# Altium schematic symbol library Connektor.SchLib: 228 symbols
Pins are listed as number, name and electrical type; pins without a type are passive.

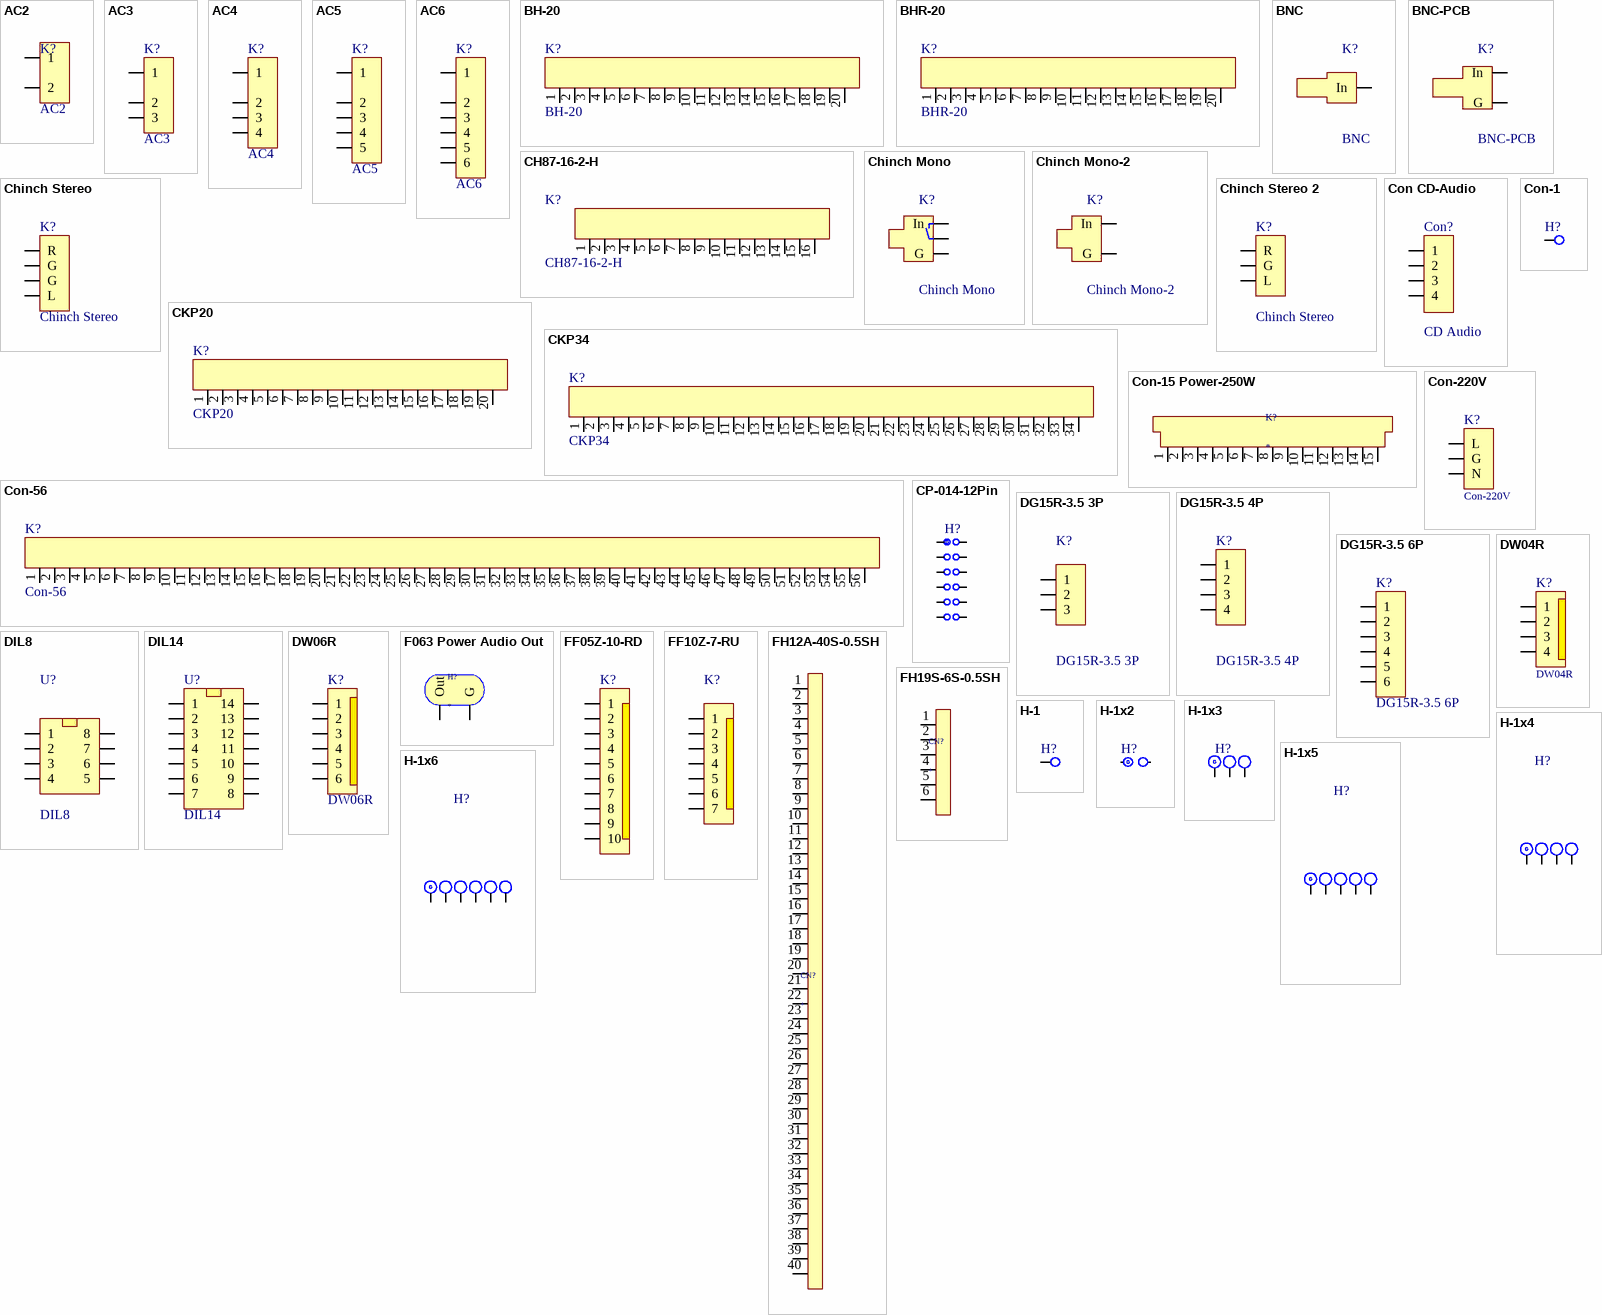
[diagram p0: symbols AC2 to H-1x6]

## AC2
designator K?
7A/250V 7.5mm; Price: 0.155
footprint AC2 (Footprint not found)
pins: 1, 2

## AC3
designator K?
7A/250V 7.5-5mm; Price: 0.2
footprint AC3 (Footprint not found)
footprint WS3R
pins: 1, 2, 3

## AC4
designator K?
7A/250V 7.5-5mm; Price: 0.26
footprint AC4 (Footprint not found)
footprint WF4R
pins: 1, 2, 3, 4

## AC5
designator K?
7A/250V 7.5-5mm; Price: 0.32
footprint AC5 (Footprint not found)
footprint WF5R
pins: 1, 2, 3, 4, 5

## AC6
designator K?
7A/250V 7.5-5mm; Price: 0.382
footprint AC6 (Footprint not found)
footprint WF6R
pins: 1, 2, 3, 4, 5, 6

## BH-20
designator K?
footprint BH-20 (Footprint not found)
pins: 1, 2, 3, 4, 5, 6, 7, 8, 9, 10, 11, 12, 13, 14, 15, 16, 17, 18, 19, 20

## BHR-20
designator K?
footprint BHR-20
pins: 1, 2, 3, 4, 5, 6, 7, 8, 9, 10, 11, 12, 13, 14, 15, 16, 17, 18, 19, 20

## BNC
designator K?
Price: 0.24
footprint BNC-1
pins: 1 In

## BNC-PCB
designator K?
Price: 0.24
footprint BNC-PCB
pins: 1 In, 2 G

## CH87-16-2-H
designator K?
2x8 Pin Header 2.54mm; Manifacture: CivLux; Комет: BH16R
footprint CH87-16-2-H (Footprint not found)
pins: 1, 2, 3, 4, 5, 6, 7, 8, 9, 10, 11, 12, 13, 14, 15, 16
1 alternate drawing of the same symbol

## Chinch Mono
designator K?
Price: 0.24
footprint Chinch Mono
pins: 1 G, 2 In, 3

## Chinch Mono-2
designator K?
Price: 0.24
footprint Chinch Mono - 2
pins: 1 In, 2 G

## Chinch Stereo
designator K?
footprint Chinch Stereo
pins: 1 G, 2 R, 3 G, 4 L

## Chinch Stereo 2
designator K?, comment Chinch Stereo
footprint Chinch Stereo - 2
pins: 1 G, 2 R, 3 L

## CKP20
designator K?
footprint CKP-20V
pins: 1, 2, 3, 4, 5, 6, 7, 8, 9, 10, 11, 12, 13, 14, 15, 16, 17, 18, 19, 20

## CKP34
designator K?
footprint CKP-34V
pins: 1, 2, 3, 4, 5, 6, 7, 8, 9, 10, 11, 12, 13, 14, 15, 16, 17, 18, 19, 20, 21, 22, 23, 24, 25, 26, 27, 28, 29, 30, 31, 32, 33, 34

## Con CD-Audio
designator Con?, comment CD Audio
CD Audio 4x2.54 90; Price: 0.07
footprint CD Audio 4x2.54 90
pins: 1, 2, 3, 4

## Con-1
designator H?
Price: 0.01
footprint Con 2x5 (Footprint not found)
footprint Con 1.5x2
pins: 1

## Con-15 Power-250W
designator K?
footprint Con-15 Power-250W
pins: 1, 2, 3, 4, 5, 6, 7, 8, 9, 10, 11, 12, 13, 14, 15

## Con-56
designator K?
footprint Con-56 Auto
pins: 1, 2, 3, 4, 5, 6, 7, 8, 9, 10, 11, 12, 13, 14, 15, 16, 17, 18, 19, 20, 21, 22, 23, 24, 25, 26, 27, 28, 29, 30, 31, 32, 33, 34, 35, 36, 37, 38, 39, 40, 41, 42, 43, 44, 45, 46, 47, 48, 49, 50, 51, 52, 53, 54, 55, 56

## Con-220V
designator K?
footprint Con-220V 7.3x7
footprint Con-220V - 9.05x9.7
pins: 1 L, 2 G, 3 N

## CP-014-12Pin
designator H?
Price: 0.12
footprint CP-014-12Pin
footprint CP-014-12Pin - R
pins: 1, 2, 3, 4, 5, 6, 7, 8, 9, 10, 11, 12

## DG15R-3.5 3P
designator K?
Price: 1.716
footprint DG15R-3.5 3P
pins: 1, 2, 3

## DG15R-3.5 4P
designator K?
Price: 1.716
footprint DG15R-3.5 4P
pins: 1, 2, 3, 4

## DG15R-3.5 6P
designator K?
Price: 1.716
footprint DG15R-3.5 6P
pins: 1, 2, 3, 4, 5, 6

## DIL8
designator U?
Price: 0.07
footprint DIL8-300
pins: 1, 2, 3, 4, 5, 6, 7, 8

## DIL14
designator U?
Price: 0.07
footprint DIL14-300
pins: 1, 2, 3, 4, 5, 6, 7, 8, 9, 10, 11, 12, 13, 14

## DW04R
designator K?
2mm 2A/250V; Price: 0.12
footprint DW04R
pins: 1, 2, 3, 4

## DW06R
designator K?
2mm 2A/250V; Price: 0.15
footprint DW06R
pins: 1, 2, 3, 4, 5, 6

## F063 Power Audio Out
designator H?
Price: 2.3
footprint F063 Power Audio Out
pins: 1 Out, 2 G

## FF05Z-10-RD
designator K?
CF20 0.5mm; Price: 0.33
footprint FF05Z-10-RD
pins: 0 hidden to Gnd, 0 hidden to gnd, 0 hidden to gnd, 1, 2, 3, 4, 5, 6, 7, 8, 9, 10
1 alternate drawing of the same symbol

## FF10Z-7-RU
designator K?
CF07 1mm; Price: 0.33
footprint FF10Z-7-RU
pins: 0 hidden to Gnd, 1, 2, 3, 4, 5, 6, 7

## FH12A-40S-0.5SH
designator CN?
footprint FH12A-40S-0.5SH (Footprint not found)
pins: 1, 2, 3, 4, 5, 6, 7, 8, 9, 10, 11, 12, 13, 14, 15, 16, 17, 18, 19, 20, 21, 22, 23, 24, 25, 26, 27, 28, 29, 30, 31, 32, 33, 34, 35, 36, 37, 38, 39, 40

## FH19S-6S-0.5SH
designator CN?
footprint FH19S-6S-0.5SH (Footprint not found)
pins: 1, 2, 3, 4, 5, 6

## H-1
designator H?
Price: 0.01
footprint J1 (Footprint not found)
pins: 1

## H-1x2
designator H?
Price: 0.02
footprint J1x2
pins: 1, 2

## H-1x3
designator H?
Price: 0.03
footprint J1x3
pins: 1, 2, 3

## H-1x4
designator H?
Price: 0.04
footprint J1x4
pins: 1, 2, 3, 4

## H-1x5
designator H?
Price: 0.05
footprint J1x5
pins: 1, 2, 3, 4, 5

## H-1x6
designator H?
Price: 0.06
footprint J1x6
pins: 1, 2, 3, 4, 5, 6

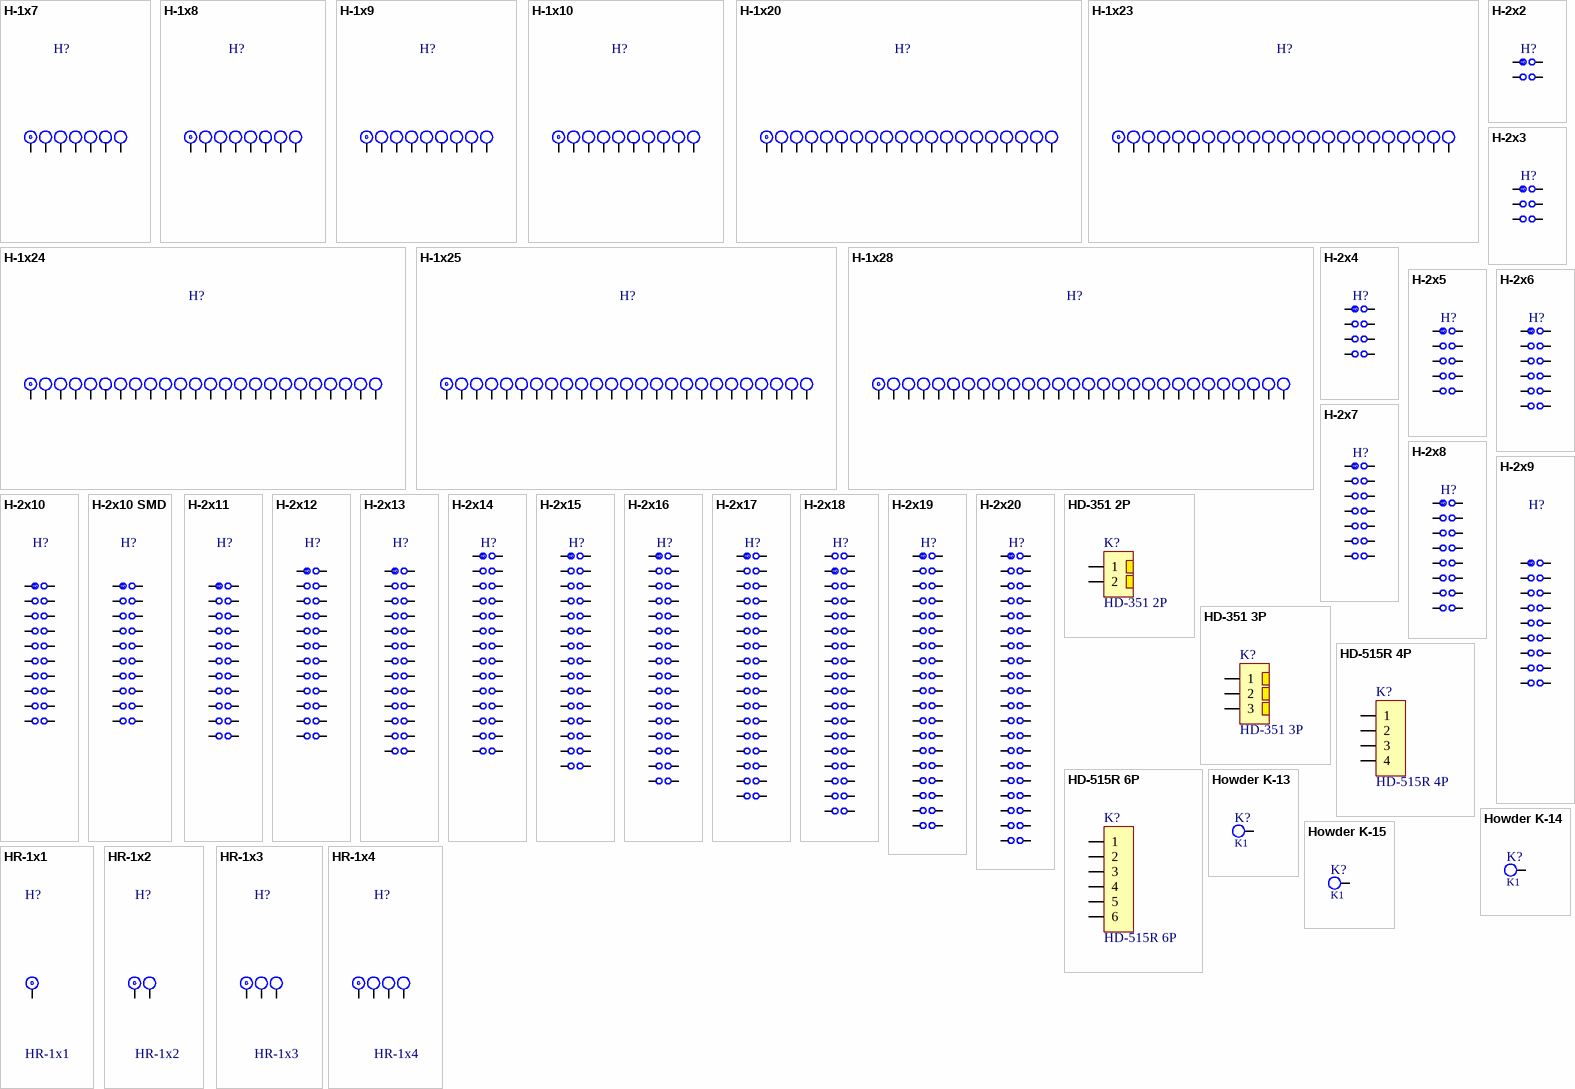
[diagram p1: symbols H-1x7 to HR-1x4]

## H-1x7
designator H?
Price: 0.07
footprint J1x7
pins: 1, 2, 3, 4, 5, 6, 7

## H-1x8
designator H?
Price: 0.08
footprint J1x8
pins: 1, 2, 3, 4, 5, 6, 7, 8

## H-1x9
designator H?
Price: 0.09
footprint J1x9
pins: 1, 2, 3, 4, 5, 6, 7, 8, 9

## H-1x10
designator H?
Price: 0.1
footprint J1x10
pins: 1, 2, 3, 4, 5, 6, 7, 8, 9, 10

## H-1x20
designator H?
Price: 0.2
footprint J1x20
pins: 1, 2, 3, 4, 5, 6, 7, 8, 9, 10, 11, 12, 13, 14, 15, 16, 17, 18, 19, 20

## H-1x23
designator H?
Price: 0.23
footprint J1x23
pins: 1, 2, 3, 4, 5, 6, 7, 8, 9, 10, 11, 12, 13, 14, 15, 16, 17, 18, 19, 20, 21, 22, 23

## H-1x24
designator H?
Price: 0.28
footprint J1x24
pins: 1, 2, 3, 4, 5, 6, 7, 8, 9, 10, 11, 12, 13, 14, 15, 16, 17, 18, 19, 20, 21, 22, 23, 24

## H-1x25
designator H?
Price: 0.28
footprint J1x25
pins: 1, 2, 3, 4, 5, 6, 7, 8, 9, 10, 11, 12, 13, 14, 15, 16, 17, 18, 19, 20, 21, 22, 23, 24, 25

## H-1x28
designator H?
Price: 0.28
footprint J1x28
pins: 1, 2, 3, 4, 5, 6, 7, 8, 9, 10, 11, 12, 13, 14, 15, 16, 17, 18, 19, 20, 21, 22, 23, 24, 25, 26, 27, 28

## H-2x2
designator H?
Price: 0.04
footprint J2x2 (Footprint not found)
pins: 1, 2, 3, 4

## H-2x3
designator H?
Price: 0.06
footprint J2x3
pins: 1, 2, 3, 4, 5, 6
1 alternate drawing of the same symbol

## H-2x4
designator H?
Price: 0.08
footprint J2x4
pins: 1, 2, 3, 4, 5, 6, 7, 8

## H-2x5
designator H?
Price: 0.010
footprint J2x5
pins: 1, 2, 3, 4, 5, 6, 7, 8, 9, 10

## H-2x6
designator H?
Price: 0.12
footprint J2x6
pins: 1, 2, 3, 4, 5, 6, 7, 8, 9, 10, 11, 12
1 alternate drawing of the same symbol

## H-2x7
designator H?
Price: 0.14
footprint J2x7
pins: 1, 2, 3, 4, 5, 6, 7, 8, 9, 10, 11, 12, 13, 14

## H-2x8
designator H?
Price: 0.16
footprint J2x8
pins: 1, 2, 3, 4, 5, 6, 7, 8, 9, 10, 11, 12, 13, 14, 15, 16

## H-2x9
designator H?
Price: 0.18
footprint J2x9
pins: 1, 2, 3, 4, 5, 6, 7, 8, 9, 10, 11, 12, 13, 14, 15, 16, 17, 18

## H-2x10
designator H?
Price: 0.20
footprint J2x10
pins: 1, 2, 3, 4, 5, 6, 7, 8, 9, 10, 11, 12, 13, 14, 15, 16, 17, 18, 19, 20

## H-2x10 SMD
designator H?
Price: 0.20
footprint J2x10
pins: 1, 2, 3, 4, 5, 6, 7, 8, 9, 10, 11, 12, 13, 14, 15, 16, 17, 18, 19, 20
1 alternate drawing of the same symbol

## H-2x11
designator H?
Price: 0.22
footprint J2x11
pins: 1, 2, 3, 4, 5, 6, 7, 8, 9, 10, 11, 12, 13, 14, 15, 16, 17, 18, 19, 20, 21, 22

## H-2x12
designator H?
Price: 0.24
footprint J2x12
pins: 1, 2, 3, 4, 5, 6, 7, 8, 9, 10, 11, 12, 13, 14, 15, 16, 17, 18, 19, 20, 21, 22, 23, 24

## H-2x13
designator H?
Price: 0.26
footprint J2x13
pins: 1, 2, 3, 4, 5, 6, 7, 8, 9, 10, 11, 12, 13, 14, 15, 16, 17, 18, 19, 20, 21, 22, 23, 24, 25, 26

## H-2x14
designator H?
Price: 0.28
footprint J2x14
pins: 1, 2, 3, 4, 5, 6, 7, 8, 9, 10, 11, 12, 13, 14, 15, 16, 17, 18, 19, 20, 21, 22, 23, 24, 25, 26, 27, 28

## H-2x15
designator H?
Price: 0.30
footprint J2x15
pins: 1, 2, 3, 4, 5, 6, 7, 8, 9, 10, 11, 12, 13, 14, 15, 16, 17, 18, 19, 20, 21, 22, 23, 24, 25, 26, 27, 28, 29, 30

## H-2x16
designator H?
Price: 0.32
footprint J2x16
pins: 1, 2, 3, 4, 5, 6, 7, 8, 9, 10, 11, 12, 13, 14, 15, 16, 17, 18, 19, 20, 21, 22, 23, 24, 25, 26, 27, 28, 29, 30, 31, 32

## H-2x17
designator H?
Price: 0.34
footprint J2x17
pins: 1, 2, 3, 4, 5, 6, 7, 8, 9, 10, 11, 12, 13, 14, 15, 16, 17, 18, 19, 20, 21, 22, 23, 24, 25, 26, 27, 28, 29, 30, 31, 32, 33, 34

## H-2x18
designator H?
Price: 0.36
footprint J2x18
pins: 1, 2, 3, 4, 5, 6, 7, 8, 9, 10, 11, 12, 13, 14, 15, 16, 17, 18, 19, 20, 21, 22, 23, 24, 25, 26, 27, 28, 29, 30, 31, 32, 33, 34, 35, 36

## H-2x19
designator H?
Price: 0.38
footprint J2x19
pins: 1, 2, 3, 4, 5, 6, 7, 8, 9, 10, 11, 12, 13, 14, 15, 16, 17, 18, 19, 20, 21, 22, 23, 24, 25, 26, 27, 28, 29, 30, 31, 32, 33, 34, 35, 36, 37, 38

## H-2x20
designator H?
Price: 0.40
footprint J2x20
pins: 1, 2, 3, 4, 5, 6, 7, 8, 9, 10, 11, 12, 13, 14, 15, 16, 17, 18, 19, 20, 21, 22, 23, 24, 25, 26, 27, 28, 29, 30, 31, 32, 33, 34, 35, 36, 37, 38, 39, 40

## HD-351 2P
designator K?
10A/300V AC 3.5mm; Price: 0.27
footprint HD-351 2P (Footprint not found)
pins: 1, 2

## HD-351 3P
designator K?
10A/300V AC 3.5mm; Price: 0.404
footprint HD-351 3P
footprint WS3R
pins: 1, 2, 3

## HD-515R 4P
designator K?
10A/300V AC 5mm 90; Price: 1.14
footprint HD-515R 4P
pins: 1, 2, 3, 4

## HD-515R 6P
designator K?
10A/300V AC 5mm 90; Price: 1.716
footprint HD-515R 6P
pins: 1, 2, 3, 4, 5, 6

## Howder K-13
designator K?, comment K1
15A/300V AC; Price: 0.23
footprint K13
pins: 1
1 alternate drawing of the same symbol

## Howder K-14
designator K?, comment K1
15A/300V AC; Price: 0.23
footprint K14
pins: 1
1 alternate drawing of the same symbol

## Howder K-15
designator K?, comment K1
15A/300V AC 90; Price: 0.23
footprint K15
pins: 1
1 alternate drawing of the same symbol

## HR-1x1
designator H?
Price: 0.01
footprint HR-1x1
pins: 1

## HR-1x2
designator H?
Price: 0.02
footprint HR-1x2 (Footprint not found)
pins: 1, 2

## HR-1x3
designator H?
Price: 0.03
footprint HR-1x3
pins: 1, 2, 3

## HR-1x4
designator H?
Price: 0.04
footprint HR-1x4
pins: 1, 2, 3, 4

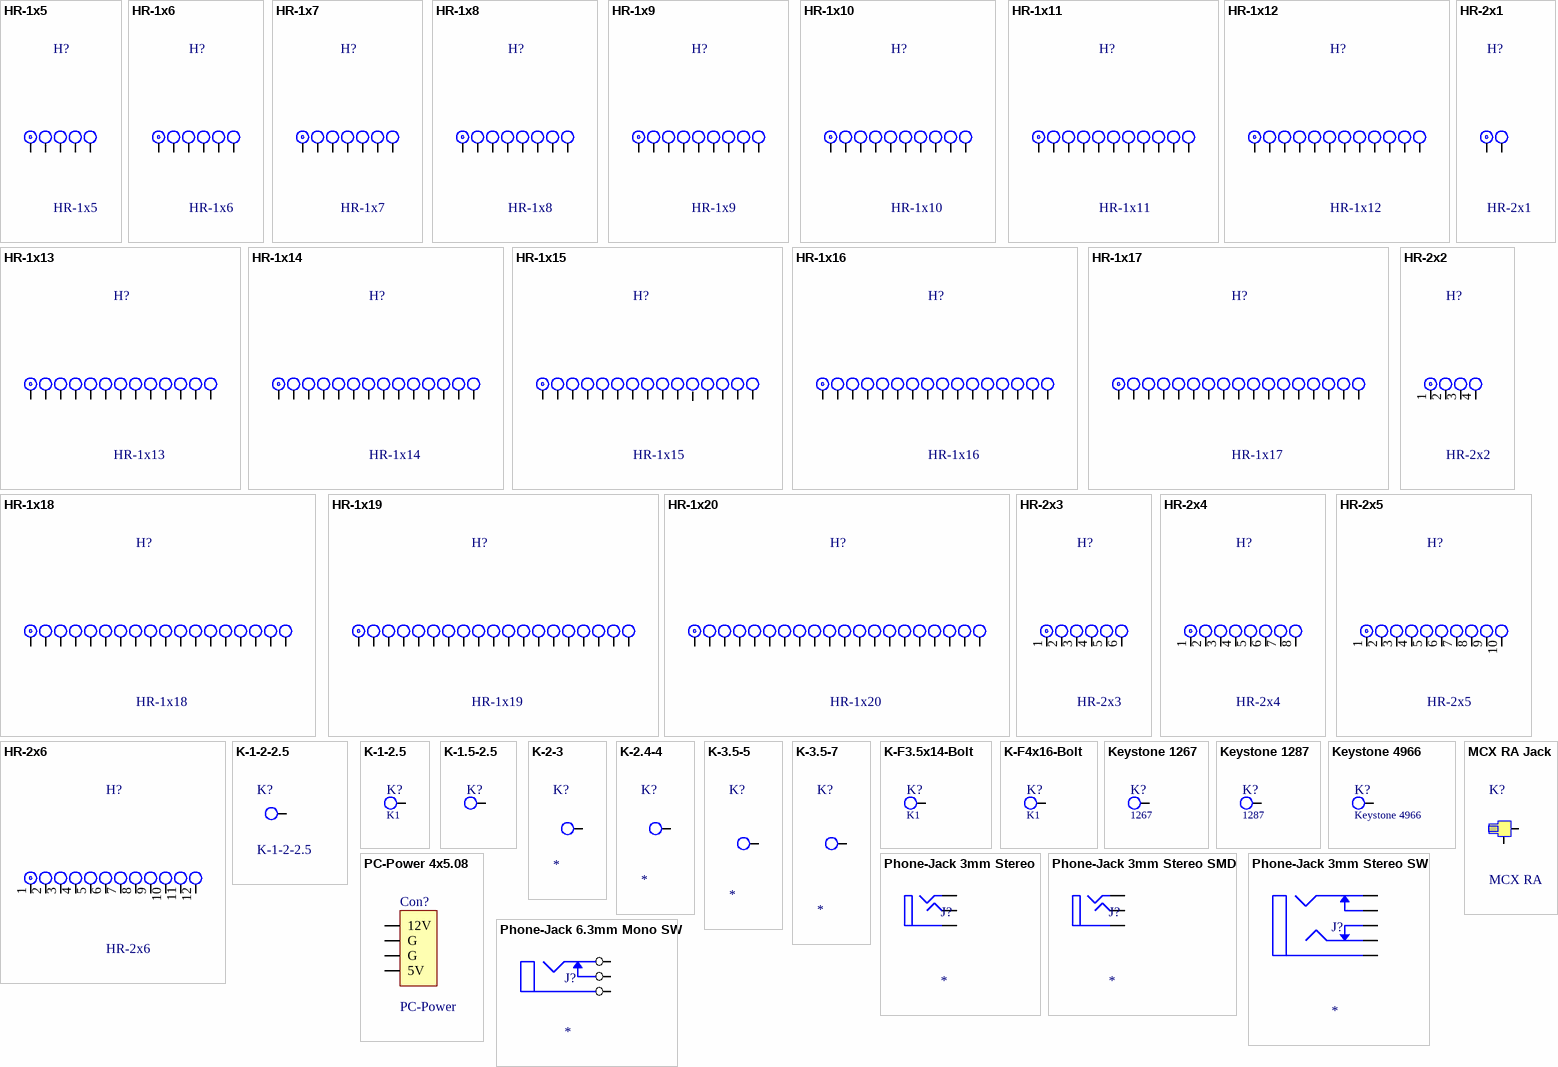
[diagram p2: symbols HR-1x5 to Phone-Jack 6.3mm Mono SW]

## HR-1x5
designator H?
Price: 0.05
footprint HR-1x5
pins: 1, 2, 3, 4, 5

## HR-1x6
designator H?
Price: 0.06
footprint HR-1x6
pins: 1, 2, 3, 4, 5, 6

## HR-1x7
designator H?
Price: 0.07
footprint HR-1x7
pins: 1, 2, 3, 4, 5, 6, 7

## HR-1x8
designator H?
Price: 0.08
footprint HR-1x8
pins: 1, 2, 3, 4, 5, 6, 7, 8

## HR-1x9
designator H?
Price: 0.09
footprint HR-1x9
pins: 1, 2, 3, 4, 5, 6, 7, 8, 9

## HR-1x10
designator H?
Price: 0.1
footprint HR-1x10
pins: 1, 2, 3, 4, 5, 6, 7, 8, 9, 10

## HR-1x11
designator H?
Price: 0.11
footprint HR-1x11
pins: 1, 2, 3, 4, 5, 6, 7, 8, 9, 10, 11

## HR-1x12
designator H?
Price: 0.12
footprint HR-1x12
pins: 1, 2, 3, 4, 5, 6, 7, 8, 9, 10, 11, 12

## HR-1x13
designator H?
Price: 0.13
footprint HR-1x13
pins: 1, 2, 3, 4, 5, 6, 7, 8, 9, 10, 11, 12, 13

## HR-1x14
designator H?
Price: 0.14
footprint HR-1x14
pins: 1, 2, 3, 4, 5, 6, 7, 8, 9, 10, 11, 12, 13, 14

## HR-1x15
designator H?
Price: 0.15
footprint HR-1x15
pins: 1, 2, 3, 4, 5, 6, 7, 8, 9, 10, 11, 12, 13, 14, 15

## HR-1x16
designator H?
Price: 0.16
footprint HR-1x16
pins: 1, 2, 3, 4, 5, 6, 7, 8, 9, 10, 11, 12, 13, 14, 15, 16

## HR-1x17
designator H?
Price: 0.17
footprint HR-1x17
pins: 1, 2, 3, 4, 5, 6, 7, 8, 9, 10, 11, 12, 13, 14, 15, 16, 17

## HR-1x18
designator H?
Price: 0.18
footprint HR-1x18
pins: 1, 2, 3, 4, 5, 6, 7, 8, 9, 10, 11, 12, 13, 14, 15, 16, 17, 18

## HR-1x19
designator H?
Price: 0.19
footprint HR-1x19
pins: 1, 2, 3, 4, 5, 6, 7, 8, 9, 10, 11, 12, 13, 14, 15, 16, 17, 18, 19

## HR-1x20
designator H?
Price: 0.20
footprint HR-1x20
pins: 1, 2, 3, 4, 5, 6, 7, 8, 9, 10, 11, 12, 13, 14, 15, 16, 17, 18, 19, 20

## HR-2x1
designator H?
Price: 0.03
footprint HR-2x1
pins: 1, 2
1 alternate drawing of the same symbol

## HR-2x2
designator H?
Price: 0.06
footprint HR-2x2
pins: 1, 2, 3, 4
1 alternate drawing of the same symbol

## HR-2x3
designator H?
Price: 0.09
footprint HR-2x3
pins: 1, 2, 3, 4, 5, 6
1 alternate drawing of the same symbol

## HR-2x4
designator H?
Price: 0.12
footprint HR-2x4
pins: 1, 2, 3, 4, 5, 6, 7, 8
1 alternate drawing of the same symbol

## HR-2x5
designator H?
Price: 0.15
footprint HR-2x5
pins: 1, 2, 3, 4, 5, 6, 7, 8, 9, 10
1 alternate drawing of the same symbol

## HR-2x6
designator H?
Price: 0.15
footprint HR-2x6
pins: 1, 2, 3, 4, 5, 6, 7, 8, 9, 10, 11, 12
1 alternate drawing of the same symbol

## K-1-2-2.5
designator K?  (no BOM)
footprint F1-2-2.5
pins: 1

## K-1-2.5
designator K?, comment K1  (no BOM)
Price: 0.01
footprint F1-2.5
pins: 1
1 alternate drawing of the same symbol

## K-1.5-2.5
designator K?  (no BOM)
Price: 0.01
footprint F1.5-2.5
pins: 1
1 alternate drawing of the same symbol

## K-2-3
designator K?  (no BOM)
footprint F2-3
pins: 1

## K-2.4-4
designator K?  (no BOM)
footprint F2.4-4
pins: 1

## K-3.5-5
designator K?  (no BOM)
footprint F3.5-5
pins: 1

## K-3.5-7
designator K?  (no BOM)
footprint F3.5-7
pins: 1

## K-F3.5x14-Bolt
designator K?, comment K1
Bolt F3x14; Price: 0.01
footprint F3.5x14-Bolt
pins: 1
1 alternate drawing of the same symbol

## K-F4x16-Bolt
designator K?, comment K1
Bolt F4x16; Price: 0.01
footprint F4.2
pins: 1
1 alternate drawing of the same symbol

## Keystone 1267
designator K?, comment 1267
Price: 0.01
footprint Keystone 1267 (Footprint not found)
pins: 1
1 alternate drawing of the same symbol

## Keystone 1287
designator K?, comment 1287
Price: 0.01
footprint Keystone 1287
pins: 1
1 alternate drawing of the same symbol

## Keystone 4966
designator K?
Price: 0.01
footprint Keystone 4966
pins: 1
1 alternate drawing of the same symbol

## MCX RA Jack
designator K?, comment MCX RA
MCX RA Jack; Price: 5
footprint MCX RA (Footprint not found)
footprint MCX RA SMD
footprint MCX RA Vert.
pins: 1 In, 2 G

## PC-Power 4x5.08
designator Con?, comment PC-Power
PC-Power 4x5.08; Price: 0.07
footprint PC-Power 4x5.08
pins: 1 5V, 2 G, 3 G, 4 12V

## Phone-Jack 3mm Stereo
designator J?
footprint Jak-Ph St 12x12-1
footprint Jak-Ph St 6x12
footprint Jak-Ph St 12x12-2
pins: 1 G, 2 L, 3 R
2 alternate drawings of the same symbol

## Phone-Jack 3mm Stereo SMD
designator J?
footprint Jak-Ph St 1503 03
pins: 0 G hidden to Gnd, 0 G hidden to Gnd, 1 G, 2 L, 3 R
2 alternate drawings of the same symbol

## Phone-Jack 3mm Stereo SW
designator J?
footprint Jak-Ph St 12x12-Kl
pins: 1 G, 2 L, 3 R, 4 La, 5 Ra
2 alternate drawings of the same symbol

## Phone-Jack 6.3mm Mono SW
designator J?
Phone-Jack
footprint Phone-Jack 6.3mm Mono Suitsh (Footprint not found)
pins: 1, 2, 3
2 alternate drawings of the same symbol

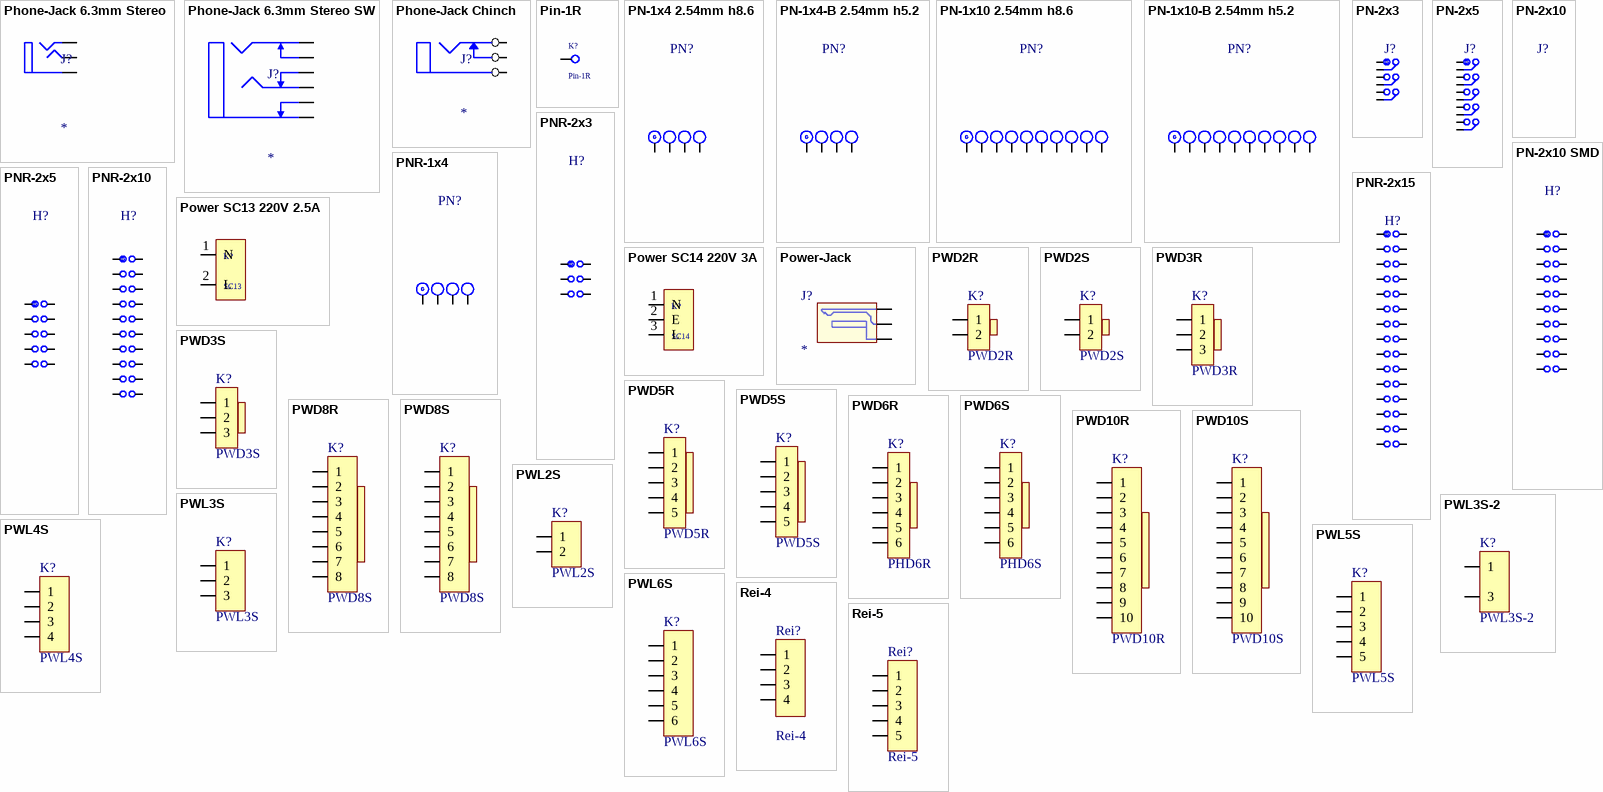
[diagram p3: symbols Phone-Jack 6.3mm Stereo to Rei-5]

## Phone-Jack 6.3mm Stereo
designator J?
footprint Phone-Jack 6.3mm
pins: 1 L, 2 R, 3 G
2 alternate drawings of the same symbol

## Phone-Jack 6.3mm Stereo SW
designator J?
footprint Phone-Jack Stereo SW 6.3mm (Footprint not found)
pins: 1 R, 2 L, 3 G, 4 Ga, 5 La, 6 Ra
2 alternate drawings of the same symbol

## Phone-Jack Chinch
designator J?
Phone-Jack
footprint Chinch Mono
pins: 1, 2, 3
2 alternate drawings of the same symbol

## Pin-1R
designator K?
footprint Pin-1R (Footprint not found)
pins: 1

## PN-1x4 2.54mm h8.6
designator PN?
Price: 0.25
footprint PN-1x4 2.54mm h8.6 (Footprint not found)
pins: 1, 2, 3, 4

## PN-1x4-B 2.54mm h5.2
designator PN?
footprint PN-1x4-B 2.54mm h5.2
pins: 1, 2, 3, 4

## PN-1x10 2.54mm h8.6
designator PN?
Price: 0.25
footprint PN-1x10 2.54mm h8.6
pins: 1, 2, 3, 4, 5, 6, 7, 8, 9, 10

## PN-1x10-B 2.54mm h5.2
designator PN?
footprint PN-1x10-B 2.54mm h5.2 (Footprint not found)
pins: 1, 2, 3, 4, 5, 6, 7, 8, 9, 10

## PN-2x3
designator J?
Price: 0.25
footprint PN-2x3
pins: 1, 2, 3, 4, 5, 6
1 alternate drawing of the same symbol

## PN-2x5
designator J?
Price: 0.25
footprint PN-2x5
pins: 1, 2, 3, 4, 5, 6, 7, 8, 9, 10
1 alternate drawing of the same symbol

## PN-2x10
designator J?
Price: 0.25
footprint PN-2x10
1 alternate drawing of the same symbol

## PN-2x10 SMD
designator H?
Price: 0.20
footprint PN-2x10 SMD (Footprint not found)
pins: 1, 2, 3, 4, 5, 6, 7, 8, 9, 10, 11, 12, 13, 14, 15, 16, 17, 18, 19, 20
1 alternate drawing of the same symbol

## PNR-1x4
designator PN?
footprint PNR-1x4
pins: 1, 2, 3, 4

## PNR-2x3
designator H?
footprint PNR-2x3
pins: 1, 2, 3, 4, 5, 6

## PNR-2x5
designator H?
Price: 0.4
footprint PNR-2x5
pins: 1, 2, 3, 4, 5, 6, 7, 8, 9, 10

## PNR-2x10
designator H?
Price: 0.7
footprint PNR-2x10
pins: 1, 2, 3, 4, 5, 6, 7, 8, 9, 10, 11, 12, 13, 14, 15, 16, 17, 18, 19, 20
1 alternate drawing of the same symbol

## PNR-2x15
designator H?
footprint PNR-2x15
pins: 1, 2, 3, 4, 5, 6, 7, 8, 9, 10, 11, 12, 13, 14, 15, 16, 17, 18, 19, 20, 21, 22, 23, 24, 25, 26, 27, 28, 29, 30

## Power SC13 220V 2.5A
designator K?, comment SC13
footprint Power SC13 220V 2.5A
pins: 1 N, 2 L

## Power SC14 220V 3A
designator K?, comment SC14
footprint Power SC14 220V 3A (Footprint not found)
pins: 1 N, 2 E, 3 L

## Power-Jack
designator J?
Power-Jack
footprint Power-Jack
pins: 1, 2, 3
2 alternate drawings of the same symbol

## PWD2R
designator K?
3.96mm 7A/250V; Price: 0.15
footprint PWD2R (Footprint not found)
pins: 1, 2

## PWD2S
designator K?
3.96mm 7A/250V; Price: 0.15
footprint PWD2S
pins: 1, 2

## PWD3R
designator K?
3.96mm 7A/250V; Price: 0.23
footprint PWD3R
pins: 1, 2, 3

## PWD3S
designator K?
3.96mm 7A/250V; Price: 0.23
footprint PWD3S
pins: 1, 2, 3

## PWD5R
designator K?
3.96mm 7A/250V; Price: 0.356
footprint PWD5R
pins: 1, 2, 3, 4, 5

## PWD5S
designator K?
3.96mm 7A/250V; Price: 0.356
footprint PWD5S
pins: 1, 2, 3, 4, 5

## PWD6R
designator K?, comment PHD6R
3.96mm 7A/250V; Price: 0.373
footprint PWD6R
pins: 1, 2, 3, 4, 5, 6

## PWD6S
designator K?, comment PHD6S
3.96mm 7A/250V; Price: 0.373
footprint PWD6S
pins: 1, 2, 3, 4, 5, 6

## PWD8R
designator K?, comment PWD8S
3.96mm 7A/250V; Price: 0.46
footprint PWD8R
pins: 1, 2, 3, 4, 5, 6, 7, 8

## PWD8S
designator K?
3.96mm 7A/250V; Price: 0.46
footprint PWD8S
pins: 1, 2, 3, 4, 5, 6, 7, 8

## PWD10R
designator K?
3.96mm 7A/250V; Price: 0.62
footprint PWD10R (Footprint not found)
pins: 1, 2, 3, 4, 5, 6, 7, 8, 9, 10

## PWD10S
designator K?
3.96mm 7A/250V; Price: 0.62
footprint PWD10S
pins: 1, 2, 3, 4, 5, 6, 7, 8, 9, 10

## PWL2S
designator K?
3.96mm 7A/250V
footprint PWL2S
pins: 1, 2

## PWL3S
designator K?
3.96mm 7A/250V; Price: 0.12
footprint PWL3S
pins: 1, 2, 3

## PWL3S-2
designator K?
3.96mm 7A/250V; Price: 0.12
footprint PWL3S-2
pins: 1, 3

## PWL4S
designator K?
3.96mm 7A/250V; Price: 0.17
footprint PWL4S (Model Description)
pins: 1, 2, 3, 4

## PWL5S
designator K?
3.96mm 7A/250V
footprint PWL5S (Model Description)
pins: 1, 2, 3, 4, 5

## PWL6S
designator K?
3.96mm 7A/250V; Price: 0.243
footprint PWL6S (Model Description)
pins: 1, 2, 3, 4, 5, 6

## Rei-4
designator Rei?
Price: 0.07
footprint Rei-4 (Footprint not found)
pins: 1, 2, 3, 4

## Rei-5
designator Rei?
Price: 0.07
footprint Rei-5
pins: 1, 2, 3, 4, 5

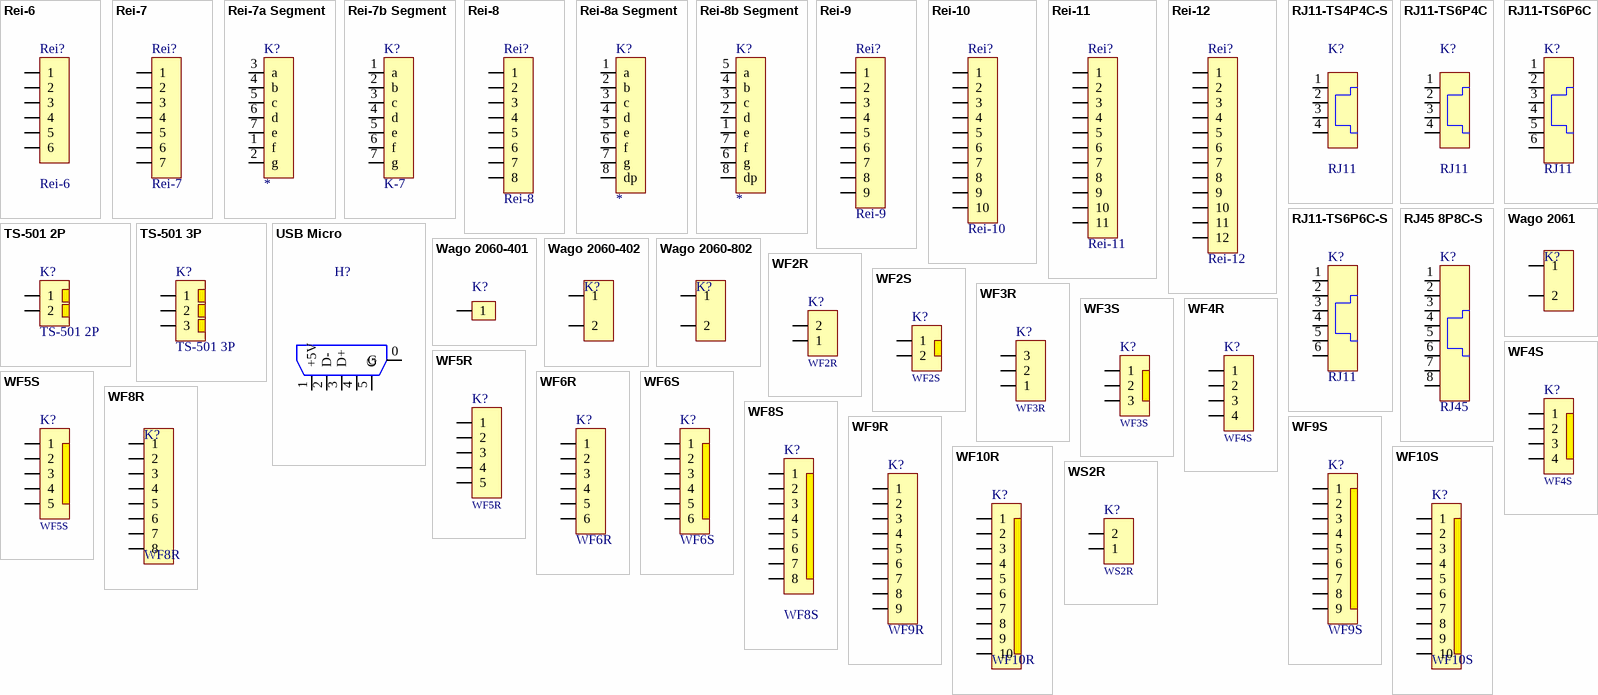
[diagram p4: symbols Rei-6 to WS2R]

## Rei-6
designator Rei?
Price: 0.07
footprint Rei-6
pins: 1, 2, 3, 4, 5, 6

## Rei-7
designator Rei?
Price: 0.07
footprint Rei-7
pins: 1, 2, 3, 4, 5, 6, 7

## Rei-7a Segment
designator K?
Price: 0.07
footprint Rei-7
pins: 1 f, 2 g, 3 a, 4 b, 5 c, 6 d, 7 e

## Rei-7b Segment
designator K?, comment K-7
Price: 0.07
footprint Rei-7
pins: 1 a, 2 b, 3 c, 4 d, 5 e, 6 f, 7 g

## Rei-8
designator Rei?
Price: 0.08
footprint Rei-8
pins: 1, 2, 3, 4, 5, 6, 7, 8

## Rei-8a Segment
designator K?
footprint Rei-8
pins: 1 a, 2 b, 3 c, 4 d, 5 e, 6 f, 7 g, 8 dp

## Rei-8b Segment
designator K?
footprint Rei-8
pins: 1 e, 2 d, 3 c, 4 b, 5 a, 6 g, 7 f, 8 dp

## Rei-9
designator Rei?
Price: 0.09
footprint Rei-9
pins: 1, 2, 3, 4, 5, 6, 7, 8, 9

## Rei-10
designator Rei?
Price: 0.10
footprint Rei-10
pins: 1, 2, 3, 4, 5, 6, 7, 8, 9, 10

## Rei-11
designator Rei?
Price: 0.11
footprint Rei-11
pins: 1, 2, 3, 4, 5, 6, 7, 8, 9, 10, 11

## Rei-12
designator Rei?
Price: 0.12
footprint Rei-12
pins: 1, 2, 3, 4, 5, 6, 7, 8, 9, 10, 11, 12

## RJ11-TS4P4C-S
designator K?, comment RJ11
Price: 0.27
footprint RJ11-TS4P4C-S
pins: 1, 2, 3, 4

## RJ11-TS6P4C
designator K?, comment RJ11
Price: 0.27
footprint RJ11-TS6P4C (Footprint not found)
pins: 1, 2, 3, 4

## RJ11-TS6P6C
designator K?, comment RJ11
Price: 0.27
footprint RJ11-TS6P6C
pins: 1, 2, 3, 4, 5, 6

## RJ11-TS6P6C-S
designator K?, comment RJ11
Price: 0.27
footprint RJ11-TS6P6C-S (1.02)
pins: 1, 2, 3, 4, 5, 6

## RJ45 8P8C-S
designator K?, comment RJ45
footprint RJ45 8P8C-S
pins: 1, 2, 3, 4, 5, 6, 7, 8

## TS-501 2P
designator K?
10A/300V AC 5mm; Price: 0.27
footprint TS-501 2P-2.5
pins: 1, 2

## TS-501 3P
designator K?
10A/300V AC 5mm; Price: 0.404
footprint TS-501 3P-2.5
footprint WS3R
pins: 1, 2, 3

## USB Micro
designator H?
USB B Micro R/A SMD; Price: 0.90
footprint USB Micro
pins: 0 G, 1 +5V, 2 D-, 3 D+, 4, 5 G

## Wago 2060-401
designator K?  (value not drawn)
SMD 9A/250V; Price: 0.155
footprint Wago 2060-401
pins: 1

## Wago 2060-402
designator K?  (value not drawn)
SMD 9A/250V; Price: 0.155
footprint Wago 2060-402
pins: 1, 2

## Wago 2060-802
designator K?
SMD 9A/250V; Price: 0.155
footprint Wago 2060-802
pins: 1, 2

## Wago 2061
designator K?
SMD 9A/250V; Price: 0.155
footprint Wago 2061-602
pins: 1, 2

## WF2R
designator K?
2.54mm 3A/250V; Price: 0.06
footprint WF2R
pins: 1, 2

## WF2S
designator K?
2.54mm 3A/250V; Price: 0.06
footprint WF2S
pins: 1, 2

## WF3R
designator K?
2.54mm 3A/250V; Price: 0.11
footprint WF3R
pins: 1, 2, 3

## WF3S
designator K?
2.54mm 3A/250V; Price: 0.11
footprint WF3S
pins: 1, 2, 3

## WF4R
designator K?, comment WF4S
2.54mm 3A/250V; Price: 0.11
footprint WF4R
pins: 1, 2, 3, 4

## WF4S
designator K?
2.54mm 3A/250V; Price: 0.11
footprint WF4S
pins: 1, 2, 3, 4

## WF5R
designator K?
2.54mm 3A/250V; Price: 0.14
footprint WF5R
pins: 1, 2, 3, 4, 5

## WF5S
designator K?
2.54mm 3A/250V; Price: 0.14
footprint WF5S
pins: 1, 2, 3, 4, 5

## WF6R
designator K?
2.54mm 3A/250V; Price: 0.17
footprint WF6R
pins: 1, 2, 3, 4, 5, 6

## WF6S
designator K?
2.54mm 3A/250V; Price: 0.17
footprint WF6S
pins: 1, 2, 3, 4, 5, 6

## WF8R
designator K?
2.54mm 3A/250V; Price: 0.17
footprint WF8R (Footprint not found)
pins: 1, 2, 3, 4, 5, 6, 7, 8

## WF8S
designator K?
2.54mm 3A/250V; Price: 0.17
footprint WF8S (Footprint not found)
pins: 1, 2, 3, 4, 5, 6, 7, 8

## WF9R
designator K?
2.54mm 3A/250V; Price: 0.17
footprint WF9R (Footprint not found)
pins: 1, 2, 3, 4, 5, 6, 7, 8, 9

## WF9S
designator K?
2.54mm 3A/250V; Price: 0.17
footprint WF9S (Footprint not found)
pins: 1, 2, 3, 4, 5, 6, 7, 8, 9

## WF10R
designator K?
2.54mm 3A/250V; Price: 0.17
footprint WF10R
pins: 1, 2, 3, 4, 5, 6, 7, 8, 9, 10

## WF10S
designator K?
2.54mm 3A/250V; Price: 0.17
footprint WF10S
pins: 1, 2, 3, 4, 5, 6, 7, 8, 9, 10

## WS2R
designator K?
2.5mm 3A/250V; Price: 0.06
footprint WS2R
pins: 1, 2

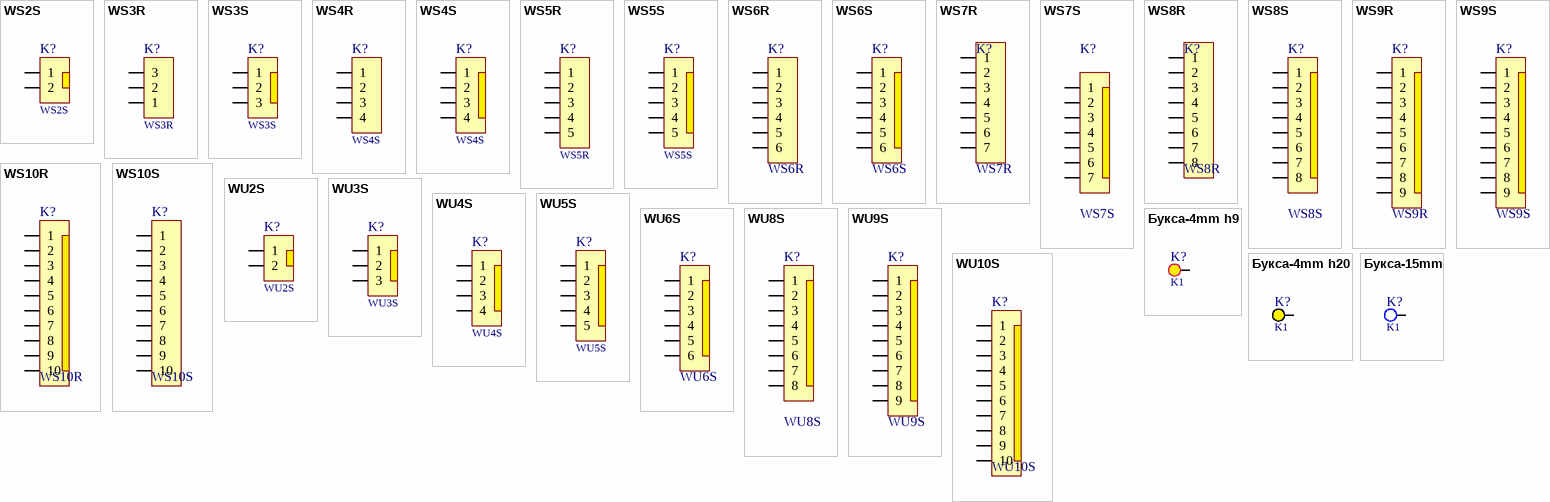
[diagram p5: symbols WS2S to Букса-15mm]

## WS2S
designator K?
2.5mm 3A/250V; Price: 0.06
footprint WS2S
pins: 1, 2

## WS3R
designator K?
2.5mm 3A/250V; Price: 0.11
footprint WS3R
pins: 1, 2, 3

## WS3S
designator K?
2.5mm 3A/250V; Price: 0.11
footprint WS3S
pins: 1, 2, 3

## WS4R
designator K?, comment WS4S
2.5mm 3A/250V; Price: 0.11
footprint WS4R
pins: 1, 2, 3, 4

## WS4S
designator K?
2.5mm 3A/250V; Price: 0.11
footprint WS4S
pins: 1, 2, 3, 4

## WS5R
designator K?
2.5mm 3A/250V; Price: 0.14
footprint WS5R
pins: 1, 2, 3, 4, 5

## WS5S
designator K?
2.5mm 3A/250V; Price: 0.14
footprint WS5S
pins: 1, 2, 3, 4, 5

## WS6R
designator K?
2.5mm 3A/250V; Price: 0.17
footprint WS6R
pins: 1, 2, 3, 4, 5, 6

## WS6S
designator K?
2.5mm 3A/250V; Price: 0.17
footprint WS6S
pins: 1, 2, 3, 4, 5, 6

## WS7R
designator K?
2.5mm 3A/250V; Price: 0.17
footprint WS7R
pins: 1, 2, 3, 4, 5, 6, 7

## WS7S
designator K?
2.5mm 3A/250V; Price: 0.17
footprint WS7S
pins: 1, 2, 3, 4, 5, 6, 7

## WS8R
designator K?
2.5mm 3A/250V; Price: 0.17
footprint WS8R
pins: 1, 2, 3, 4, 5, 6, 7, 8

## WS8S
designator K?
2.5mm 3A/250V; Price: 0.17
footprint WS8S
pins: 1, 2, 3, 4, 5, 6, 7, 8

## WS9R
designator K?
2.5mm 3A/250V; Price: 0.17
footprint WS9R
pins: 1, 2, 3, 4, 5, 6, 7, 8, 9

## WS9S
designator K?
2.5mm 3A/250V; Price: 0.17
footprint WS9S (Footprint not found)
pins: 1, 2, 3, 4, 5, 6, 7, 8, 9

## WS10R
designator K?
2.5mm 3A/250V; Price: 0.17
footprint WS10R (Footprint not found)
pins: 1, 2, 3, 4, 5, 6, 7, 8, 9, 10

## WS10S
designator K?
2.5mm 3A/250V; Price: 0.17
footprint WS10S (Footprint not found)
pins: 1, 2, 3, 4, 5, 6, 7, 8, 9, 10

## WU2S
designator K?
1.25mm 1A/100V *; Price: 0.06
footprint WU2S
pins: 1, 2

## WU3S
designator K?
1.25mm 1A/100V; Price: 0.11
footprint WU3S
pins: 1, 2, 3

## WU4S
designator K?
1.25mm 1A/100V *; Price: 0.11
footprint WU4S
pins: 1, 2, 3, 4

## WU5S
designator K?
1.25mm 1A/100V; Price: 0.14
footprint WU5S
pins: 1, 2, 3, 4, 5

## WU6S
designator K?
1.25mm 1A/100V *; Price: 0.17
footprint WU6S
pins: 1, 2, 3, 4, 5, 6

## WU8S
designator K?
1.25mm 1A/100V *; Price: 0.17
footprint WU8S
pins: 1, 2, 3, 4, 5, 6, 7, 8

## WU9S
designator K?
1.25mm 1A/100V; Price: 0.17
footprint WU9S
pins: 1, 2, 3, 4, 5, 6, 7, 8, 9

## WU10S
designator K?
1.25mm 1A/100V; Price: 0.17
footprint WU10S
pins: 1, 2, 3, 4, 5, 6, 7, 8, 9, 10

## Букса-4mm h9
designator K?, comment K1
Price: 0.01
footprint Букса-4mm Червена h9
footprint Букса-4mm Черна h9
pins: 1
1 alternate drawing of the same symbol

## Букса-4mm h20
designator K?, comment K1
Price: 0.01
footprint Букса-4mm Черна h20
footprint Букса-4mm Червена h20
pins: 1
1 alternate drawing of the same symbol

## Букса-15mm
designator K?, comment K1
Price: 0.01
footprint Букса-15mm Червена
footprint Букса-15mm Черна
pins: 1
1 alternate drawing of the same symbol